# Altium footprint library SolarNode.PcbLib: 76 footprints (part 4 of 5)
Each footprint in its own frame and in the unit in brackets; x right, y up, seen from the top. Pads: shape width x height; smd on the part's side, far side on the other; paste and mask are expansions set on the pad; w line width, h text height; cw(c..) or ccw(c..) is an arc to the next point about the centre after c.
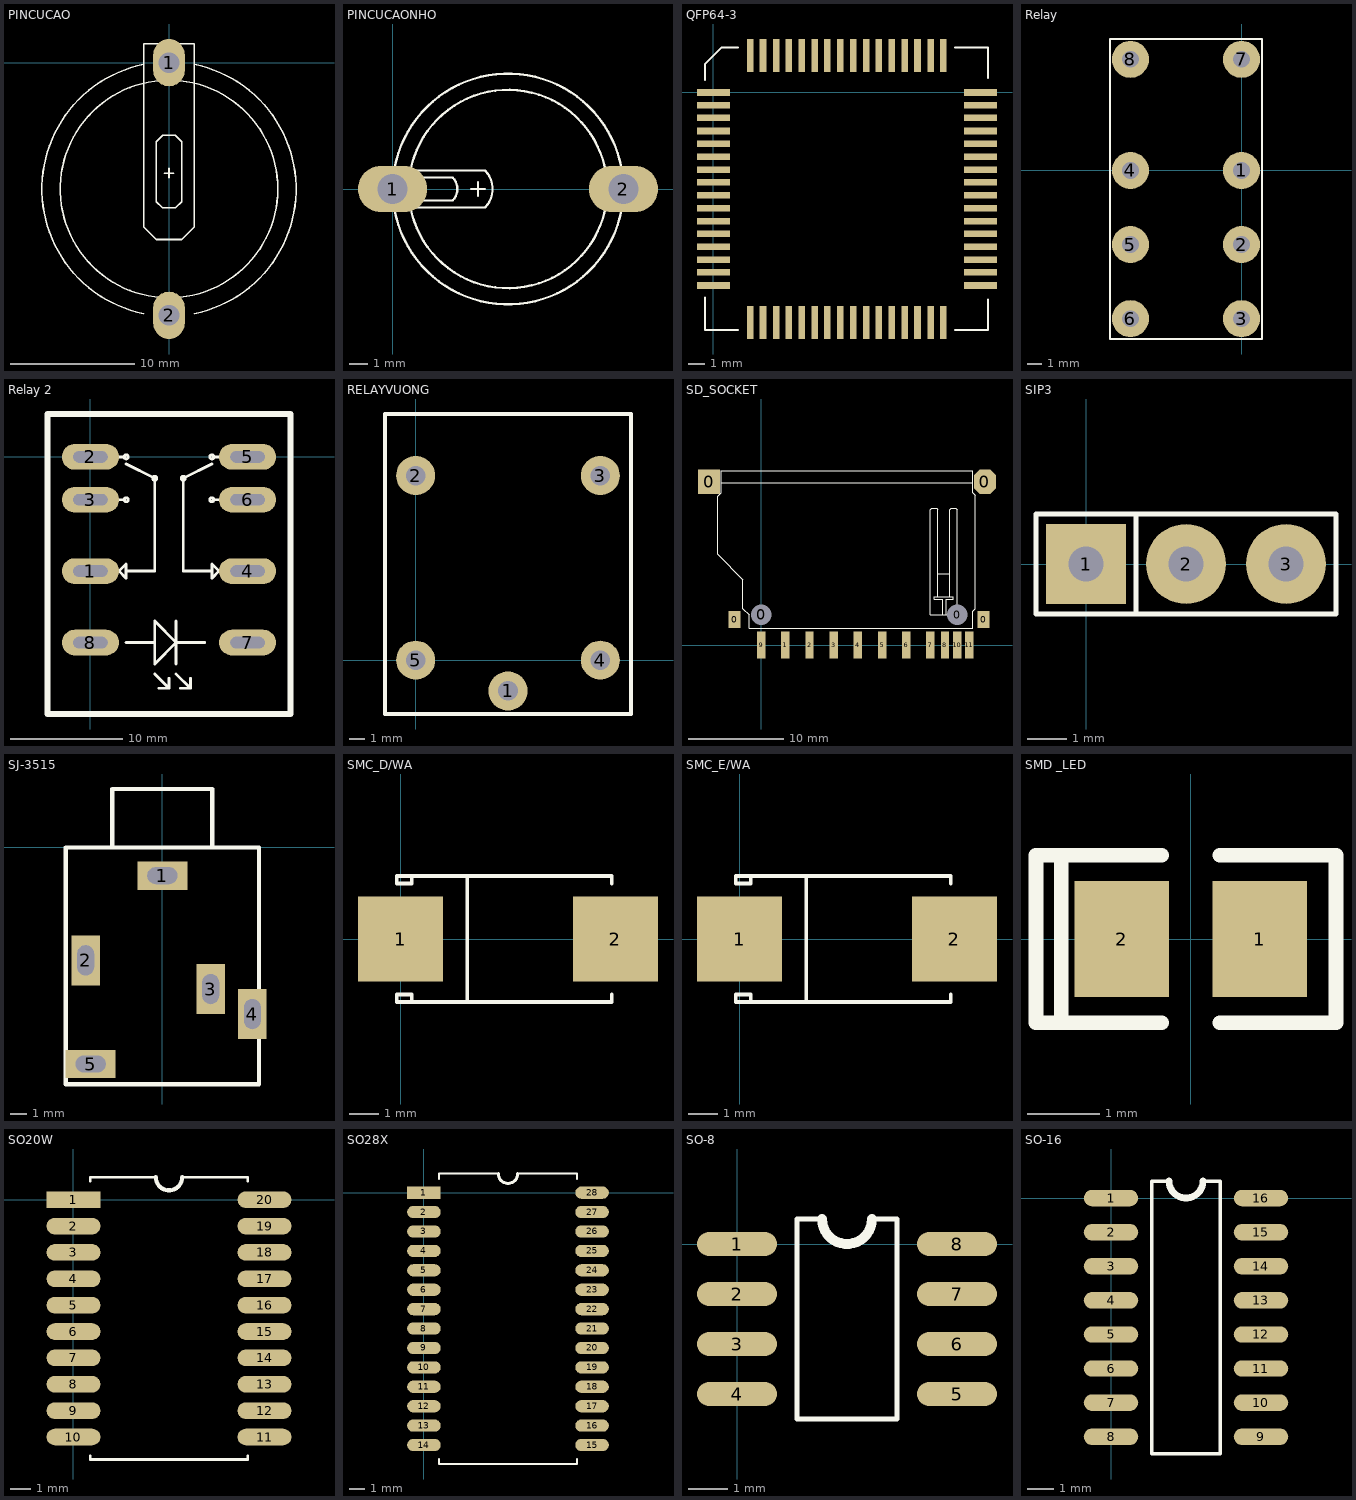
[diagram p3: the footprints below, top view; thin cyan lines are the x and y axes]

## PINCUCAO [mil]
pads (2):
  oval 100x150 hole 65: 1(0,0) 2(0,-800)
Top Overlay:
  circle w5: c0,-400 r344.42
  lines w5: -79.92,-794.64 cw(c0,-400) -79.92,-5.36 ; -15,-350 15,-350 ; 0,-365 0,-335 ; 79.92,-794.64 ccw(c0,-400) 79.92,-5.36 ; -80,-520 -40,-560 40,-560 80,-520 80,60 -80,60 -80,-520 ; -40,-440 -40,-250 -20,-230 20,-230 40,-250 40,-440 20,-460 10,-460 -20,-460 -40,-440

## PINCUCAONHO [mil]
pads (2):
  oval 150x100 hole 65: 1(0,0) 2(500,0)
Top Overlay:
  circle w5: c250,0 r215
  lines w5: 4.11,-45.16 ccw(c250,0) 495.89,-45.16 ; 4.11,45.16 cw(c250,0) 495.89,45.16 ; 15,-40 200,-40 ccw(c160,0) 200,40 15,40 ; 35,-25 130,-25 ccw(c105,0) 130,25 35,25 ; 170,0 200,0 ; 185,-15 185,15

## QFP64-3 [mil]
pads (64):
  rect 80x16 smd: 1(0,0) 2(0,-31) 3(0,-62) 4(0,-94) 5(0,-125) 6(0,-157) 7(0,-188) 8(0,-219) 9(0,-251) 10(0,-282) 11(0,-314) 12(0,-345) 13(0,-376) 14(0,-408) 15(0,-439) 16(0,-471) 33(652,-471) 34(652,-439) 35(652,-408) 36(652,-376) 37(652,-345) 38(652,-314) 39(652,-282) 40(652,-251) 41(652,-219) 42(652,-188) 43(652,-157) 44(652,-125) 45(652,-94) 46(652,-62) 47(652,-31) 48(652,0)
  rect 16x80 smd: 17(90,-561) 18(121,-561) 19(153,-561) 20(184,-561) 21(216,-561) 22(247,-561) 23(278,-561) 24(310,-561) 25(341,-561) 26(373,-561) 27(404,-561) 28(435,-561) 29(467,-561) 30(498,-561) 31(530,-561) 32(561,-561) 49(561,90) 50(530,90) 51(498,90) 52(467,90) 53(435,90) 54(404,90) 55(373,90) 56(341,90) 57(310,90) 58(278,90) 59(247,90) 60(216,90) 61(184,90) 62(153,90) 63(121,90) 64(90,90)
Top Overlay:
  lines w5: -20,-500 -20,-580 60,-580 ; -20,30 -20,70 20,110 60,110 ; 590,-580 670,-580 670,-505 ; 590,110 670,110 670,35

## Relay [mil]
pads (8):
  round 100 hole 45: 1(0,0) 2(0,-200) 3(0,-400) 4(-300,0) 5(-300,-200) 6(-300,-400) 7(0,300) 8(-300,300)
Top Overlay:
  lines w5: -355,-455 55,-455 55,355 -355,355 -355,-455

## Relay 2 [mil]
pads (8):
  oval 200x90 hole 40 slot 120 at 0 deg: 1(0,-400) 2(0,0) 3(0,-150) 4(550,-400) 5(550,0) 6(550,-150) 7(550,-650) 8(0,-650)
Top Overlay:
  circle w10: c125,0 r7.07
  circle w10: c125,-150 r7.07
  circle w10: c225,-75 r7.07
  circle w10: c325,-75 r7.07
  circle w10: c425,-150 r7.07
  circle w10: c425,0 r7.07
  lines w10: 100,-150 120,-150 ; 100,0 120,0 ; 125,-650 225,-650 ; 125,-400 225,-400 225,-75 125,-25 ; 225,-760 275,-810 ; 240,-810 275,-810 ; 275,-775 275,-810 ; 300,-760 350,-810 ; 300,-725 300,-575 ; 315,-810 350,-810 ; 350,-775 350,-810 ; 400,-650 300,-650 ; 425,-400 325,-400 325,-75 425,-25 ; 430,-150 450,-150 ; 430,0 450,0 ; 300,-650 225,-575 225,-725 300,-650 ; 100,-400 125,-425 125,-375 100,-400 ; 425,-425 450,-400 425,-375 425,-425
  lines w20: -150,-900 700,-900 700,150 -150,150 -150,-900

## RELAYVUONG [mm]
pads (5):
  round 2.54 hole 1.27: 1(6,-2) 2(0,12) 3(12,12) 4(12,0) 5(0,0)
Top Overlay:
  lines w0.254: -2,-3.5 -2,16 14,16 14,-3.5 -2,-3.5

## SD_SOCKET [mil]
pads (17):
  rect 90x100 smd: 0(-215,675)
  rect 50x70 smd: 0(-110,105) 0(920,105)
  round 80 hole 85: 0(0,125)
  round 60 hole 85: 0(810,125)
  oct 90x100 smd: 0(925,675)
  rect 35x110 smd: 1(100,0) 2(200,0) 3(300,0) 4(400,0) 5(500,0) 6(600,0) 7(700,0) 8(760,0) 9(0,0) 10(810,0) 11(860,0)
Top Overlay:
  lines w5: -165,670 875,670 ; 730,295 780,295 ; 750,125 750,190 715,190 715,200 795,200 795,190 765,190 765,125 ; -180,375 -75,270 -75,150 -50,125 -50,70 -20,70 875,70 875,140 885,150 885,620 875,630 875,720 -165,720 -165,630 -180,615 -180,375 ; 700,125 700,560 705,565 715,565 725,565 730,560 730,200 780,200 780,560 785,565 795,565 805,565 810,560 810,125 700,125

## SIP3 [mil]
pads (3):
  rect 80x80 hole 35: 1(0,0)
  round 80 hole 35: 2(100,0) 3(200,0)
Top Overlay:
  lines w5: 50,-50 50,50 ; -50,-50 250,-50 250,50 -50,50 -50,-50

## SJ-3515 [mm] "3.5mm AUDIO JACK-STEREO"
pads (5):
  rect 3x1.7 hole 1 slot 1.8 at 0 deg: 1(0,-1.7) 5(-4.3,-13)
  rect 1.7x3 hole 1 slot 1.8 at 90 deg: 2(-4.6,-6.78) 3(2.9,-8.5) 4(5.4,-10)
Top Overlay:
  lines w0.254: -3,0.067 -3,3.5 3,3.5 3,0.036 ; -5.8,-14.212 -5.8,-0.012 5.8,-0.012 5.8,-14.212 -5.8,-14.212

## SMC_D/WA [mil]
pads (2):
  rect 115x115 smd: 1(0,0) 2(290,0)
Top Overlay:
  lines w5: 15,-85 15,-75 -5,-75 -5,-85 285,-85 285,-75 ; 15,85 15,75 -5,75 -5,85 285,85 285,75 ; 90,-85 90,85

## SMC_E/WA [mil]
pads (2):
  rect 115x115 smd: 1(0,0) 2(290,0)
Top Overlay:
  lines w5: 15,-85 15,-75 -5,-75 -5,-85 285,-85 285,-75 ; 15,85 15,75 -5,75 -5,85 285,85 285,75 ; 90,-85 90,85

## SMD _LED [mm]
pads (2):
  rect 1.3x1.6 smd: 1(0.95,0) 2(-0.95,0)
Top Overlay:
  lines w0.2: -1.78,-1.15 -1.78,1.15 ; -0.4,-1.15 -2.13,-1.15 -2.13,1.15 -0.4,1.15 ; 0.4,-1.15 2,-1.15 2,1.15 0.4,1.15

## SO20W [mm]
pads (20):
  rect 2.6x0.8 smd: 1(0,0)
  oval 2.6x0.8 smd: 2(0,-1.27) 3(0,-2.54) 4(0,-3.81) 5(0,-5.08) 6(0,-6.35) 7(0,-7.62) 8(0,-8.89) 9(0,-10.16) 10(0,-11.43) 11(9.2,-11.43) 12(9.2,-10.16) 13(9.2,-8.89) 14(9.2,-7.62) 15(9.2,-6.35) 16(9.2,-5.08) 17(9.2,-3.81) 18(9.2,-2.54) 19(9.2,-1.27) 20(9.2,0)
Top Overlay:
  lines w0.127: 0.8,-12.33 0.8,-12.515 8.4,-12.515 8.4,-12.33 ; 0.8,0.9 0.8,1.085 3.965,1.085 ; 5.235,1.085 8.4,1.085 8.4,0.9
  lines w0.2: 3.965,1.085 ccw(c4.6,1.085) 5.235,1.085

## SO28X [mm]
pads (28):
  rect 2.2x0.8 smd: 1(0,0)
  oval 2.2x0.8 smd: 2(0,-1.27) 3(0,-2.54) 4(0,-3.81) 5(0,-5.08) 6(0,-6.35) 7(0,-7.62) 8(0,-8.89) 9(0,-10.16) 10(0,-11.43) 11(0,-12.7) 12(0,-13.97) 13(0,-15.24) 14(0,-16.51) 15(11,-16.51) 16(11,-15.24) 17(11,-13.97) 18(11,-12.7) 19(11,-11.43) 20(11,-10.16) 21(11,-8.89) 22(11,-7.62) 23(11,-6.35) 24(11,-5.08) 25(11,-3.81) 26(11,-2.54) 27(11,-1.27) 28(11,0)
Top Overlay:
  lines w0.127: 0.99,-17.41 0.99,-17.75 10.01,-17.75 10.01,-17.41 ; 0.99,0.9 0.99,1.24 4.865,1.24 ; 6.135,1.24 10.01,1.24 10.01,0.9
  lines w0.2: 4.865,1.24 ccw(c5.5,1.24) 6.135,1.24

## SO-8 [mil]
pads (8):
  oval 80x24 smd: 1(0,0) 2(0,-50) 3(0,-100) 4(0,-150) 5(220,-150) 6(220,-100) 7(220,-50) 8(220,0)
Top Overlay:
  lines w5: 85,25 60,25 60,-175 160,-175 160,25 135,25
  lines w10: 85,25 ccw(c110,25) 135,25

## SO-16 [mil]
pads (16):
  oval 80x24 smd: 1(0,0) 2(0,-50) 3(0,-100) 4(0,-150) 5(0,-200) 6(0,-250) 7(0,-300) 8(0,-350) 9(220,-350) 10(220,-300) 11(220,-250) 12(220,-200) 13(220,-150) 14(220,-100) 15(220,-50) 16(220,0)
Top Overlay:
  lines w5: 85,25 60,25 60,-375 160,-375 160,25 135,25
  lines w10: 85,25 ccw(c110,25) 135,25